# Altium footprint library 796867-8.PcbLib: 1 footprints
Each footprint in its own frame and in the unit in brackets; x right, y up, seen from the top. Pads: shape width x height; smd on the part's side, far side on the other; paste and mask are expansions set on the pad; w line width, h text height; cw(c..) or ccw(c..) is an arc to the next point about the centre after c.
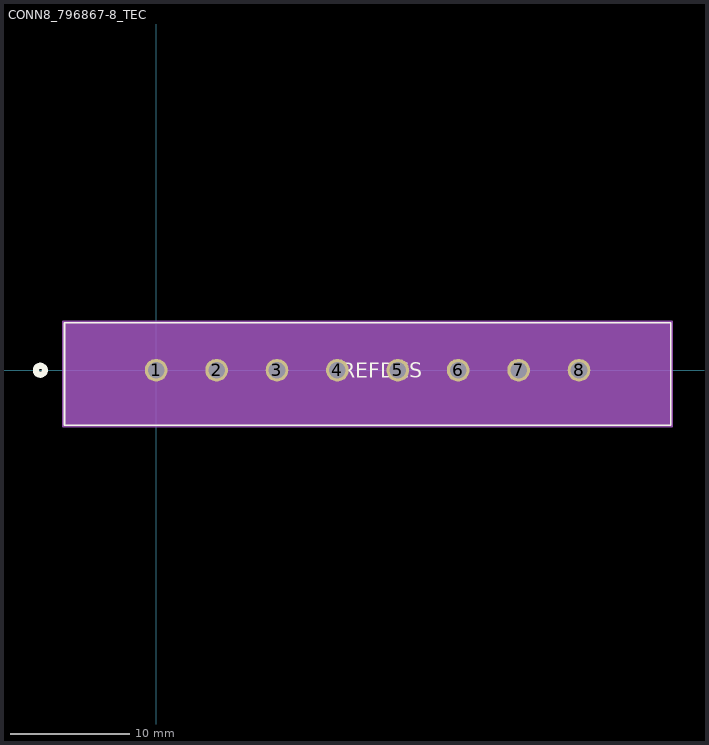
[diagram p0: the footprint, top view; thin cyan lines are the x and y axes]

## CONN8_796867-8_TEC [mil]
pads (8):
  round 75 / inner round 60 / far side round 75 hole 55 paste-37.5 mask+0: 1(0,0) 2(200,0) 3(400,0) 4(600,0) 5(800,0) 6(1000,0) 7(1200,0) 8(1400,0)
Top Overlay:
  circle w20: c-383.5,0 r15
  lines w6: -303.5,-182 1703.5,-182 1703.5,157 -303.5,157 -303.5,-182
  text "REFDES" at 612.5,-25 h50
Bottom Overlay:
  circle w20: c-383.5,0 r15
Mechanical 13:
  circle w20: c0,0 r15
  lines w1: -298.5,-177 1698.5,-177 1698.5,152 -298.5,152 -298.5,-177
  text "RefDes2" at 612.5,-25 h50
Mechanical 15:
  region: 1708.5,162 -308.5,162 -308.5,-187 1708.5,-187
  lines w6: -308.5,-187 -308.5,162 1708.5,162 1708.5,-187 -308.5,-187